# EAGLE library part 691328310010 (library Wurth_Elektronik_Electromechanic_Terminal_Blocks_Connectors_rev16b)
WR-TBL Serie 3283 – 3.81mm Close Horizontal Dual Row PCB Header With Flanges, 10 Pins=>Code : Con_TBL_Pluggable_3.81_PCB_THT_Double_691328310010 <http://katalog.we-online.de/media/images/eican/Con_TBL_Pluggable_3.81_PCB_THT_Double_6913283100xx_pf2.jpg> Details see: http://katalog.we-online.de/en/em/691_328_310_0xx Created 2014-06-19, Karrer Zheng 2014 (C) Würth Elektronik
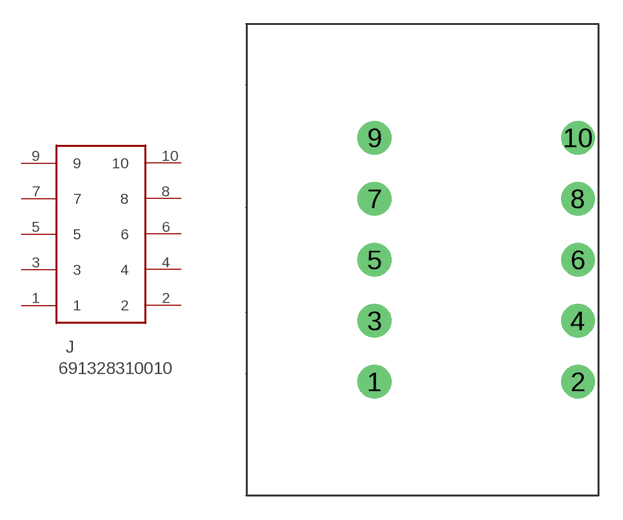
[diagram p389: symbol with the pads of 691328310010; footprint 691328310010]

Designator prefix J

## 691328310010  [691328310010]
1  1  pas
2  2  pas
3  3  pas
4  4  pas
5  5  pas
6  6  pas
7  7  pas
8  8  pas
9  9  pas
10  10  pas

## Footprint 691328310010 (pad centres in mm)
WR-TBL Serie 3283 – 3.81mm Close Horizontal Dual Row PCB Header With Flanges, 10 Pins
drill 1.4: 1 0,0; 2 12.7,0; 3 0,3.81; 4 12.7,3.81; 5 0,7.62; 6 12.7,7.62; 7 0,11.43; 8 12.7,11.43; 9 0,15.24; 10 12.7,15.24